# EAGLE library part 74*74 (library common)
Dual D type positive edge triggered FLIP FLOP, preset and clear
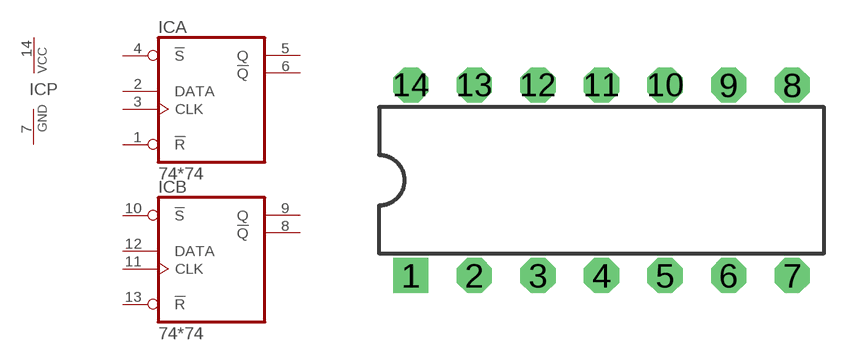
[diagram p53: symbol with the pads of DIL14; footprint DIL14]

Designator prefix IC; gates A=7474 B=7474 P=PWRN-14

## 74AC74N, 74ACT74N, 74HC74N, 74HCT74N, 74LS74N, 74S74N  [DIL14]
1  A:!R  in
2  A:DATA  in
3  A:CLK  in
4  A:!S  in
5  A:Q  out
6  A:!Q  out
7  P:GND  pwr
8  B:!Q  out
9  B:Q  out
10  B:!S  in
11  B:CLK  in
12  B:DATA  in
13  B:!R  in
14  P:VCC  pwr

## Footprint DIL14 (pad centres in mm)
Dual In Line Package
drill 0.9 square: 1 -7.62,-3.81
drill 0.9 octagon: 2 -5.08,-3.81; 3 -2.54,-3.81; 4 0,-3.81; 5 2.54,-3.81; 6 5.08,-3.81; 7 7.62,-3.81; 8 7.62,3.81; 9 5.08,3.81; 10 2.54,3.81; 11 0,3.81; 12 -2.54,3.81; 13 -5.08,3.81; 14 -7.62,3.81